# Altium footprint library MODULE_MISC.PcbLib: 36 footprints (part 2 of 3)
Each footprint in its own frame and in the unit in brackets; x right, y up, seen from the top. Pads: shape width x height; smd on the part's side, far side on the other; paste and mask are expansions set on the pad; w line width, h text height; cw(c..) or ccw(c..) is an arc to the next point about the centre after c.
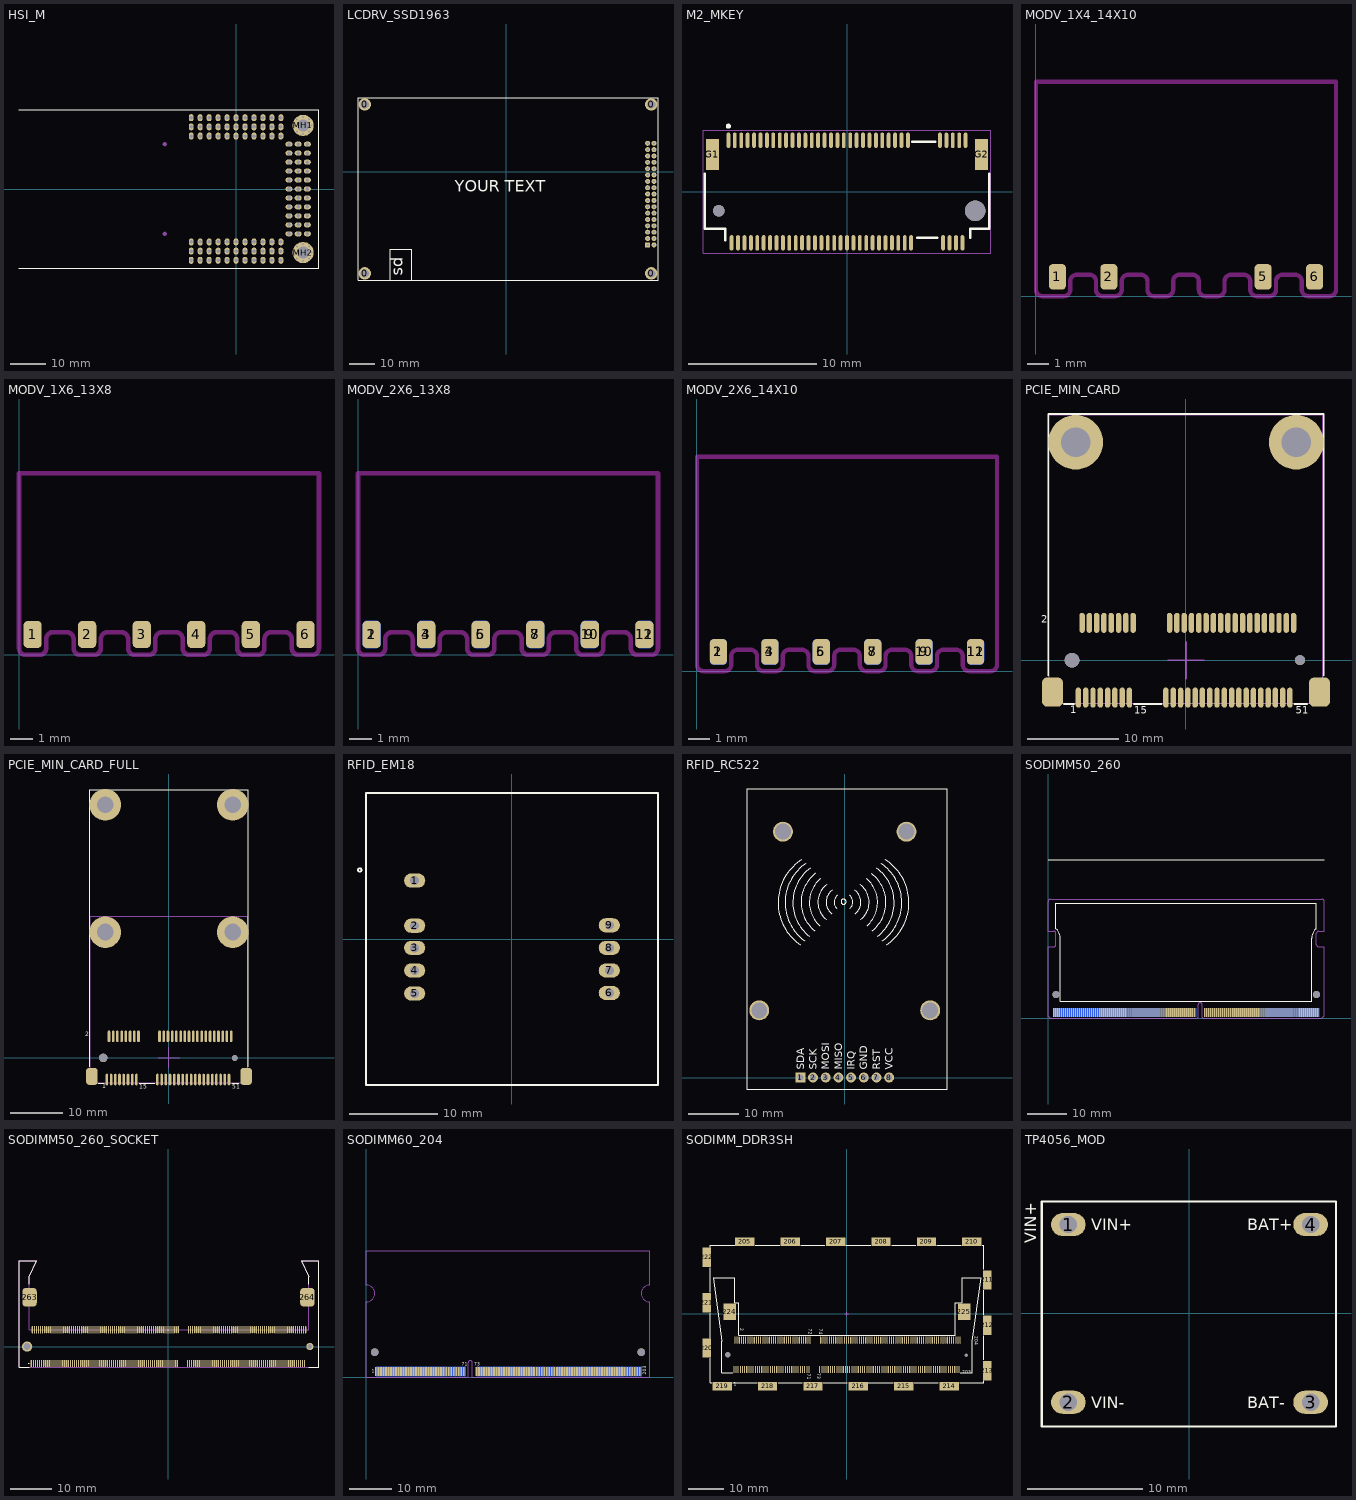
[diagram p1: the footprints below, top view; thin cyan lines are the x and y axes]

## HSI_M [mm] "CHILA_High.Speed.Interface_MODULE, MALE"
pads (103):
  oct 1.4x2 / inner round 1.4 / far side oct 1.4x1.4 hole 1 mask+0.1: BA1(-12.7,-15)
  oval 1.4x2 / inner round 1.4 / far side round 1.4 hole 1 mask+0.1: BA2(-10.16,-15) BA3(-7.62,-15) BA4(-5.08,-15) BA5(-2.54,-15) BA6(0,-15) BA7(2.54,-15) BA8(5.08,-15) BA9(7.62,-15) BA10(10.16,-15) BA11(12.7,-15) BB1(-12.7,-17.6) BB2(-10.16,-17.6) BB3(-7.62,-17.6) BB4(-5.08,-17.6) BB5(-2.54,-17.6) BB6(0,-17.6) BB7(2.54,-17.6) BB8(5.08,-17.6) BB9(7.62,-17.6) BB10(10.16,-17.6) BB11(12.7,-17.6) BC1(-12.7,-20.2) BC2(-10.16,-20.2) BC3(-7.62,-20.2) BC4(-5.08,-20.2) BC5(-2.54,-20.2) BC6(0,-20.2) BC7(2.54,-20.2) BC8(5.08,-20.2) BC9(7.62,-20.2) BC10(10.16,-20.2) BC11(12.7,-20.2) TA1(12.7,15) TA2(10.16,15) TA3(7.62,15) TA4(5.08,15) TA5(2.54,15) TA6(0,15) TA7(-2.54,15) TA8(-5.08,15) TA9(-7.62,15) TA10(-10.16,15) TA11(-12.7,15) TB1(12.7,17.6) TB2(10.16,17.6) TB3(7.62,17.6) TB4(5.08,17.6) TB5(2.54,17.6) TB6(0,17.6) TB7(-2.54,17.6) TB8(-5.08,17.6) TB9(-7.62,17.6) TB10(-10.16,17.6) TB11(-12.7,17.6) TC1(12.7,20.2) TC2(10.16,20.2) TC3(7.62,20.2) TC4(5.08,20.2) TC5(2.54,20.2) TC6(0,20.2) TC7(-2.54,20.2) TC8(-5.08,20.2) TC9(-7.62,20.2) TC10(-10.16,20.2) TC11(-12.7,20.2)
  oval 2x1.4 / inner round 1.4 / far side round 1.4 hole 1 mask+0.1: CA1(15,-12.7) CA2(15,-10.16) CA3(15,-7.62) CA4(15,-5.08) CA5(15,-2.54) CA6(15,0) CA7(15,2.54) CA8(15,5.08) CA9(15,7.62) CA10(15,10.16) CA11(15,12.7) CB1(17.6,-12.7) CB2(17.6,-10.16) CB3(17.6,-7.62) CB4(17.6,-5.08) CB5(17.6,-2.54) CB6(17.6,0) CB7(17.6,2.54) CB8(17.6,5.08) CB9(17.6,7.62) CB10(17.6,10.16) CB11(17.6,12.7) CC1(20.2,-12.7) CC2(20.2,-10.16) CC3(20.2,-7.62) CC4(20.2,-5.08) CC5(20.2,-2.54) CC6(20.2,0) CC7(20.2,2.54) CC8(20.2,5.08) CC9(20.2,7.62) CC10(20.2,10.16) CC11(20.2,12.7)
  round 6 hole 3.5 mask+0.1: MH1(19,18) MH2(19,-18)
  round 1.2 on Mech1 mask+0.1: ""(-20.2,-12.7) ""(-20.2,12.7)
via 16.6,-18 diameter 0.8 hole 0.5
via 17.303,-16.303 diameter 0.8 hole 0.5
via 19,-15.6 diameter 0.8 hole 0.5
via 20.697,-16.303 diameter 0.8 hole 0.5
via 21.4,-18 diameter 0.8 hole 0.5
via 20.697,-19.697 diameter 0.8 hole 0.5
via 19,-20.4 diameter 0.8 hole 0.5
via 17.303,-19.697 diameter 0.8 hole 0.5
via 17.303,19.697 diameter 0.8 hole 0.5
via 19,20.4 diameter 0.8 hole 0.5
via 20.697,19.697 diameter 0.8 hole 0.5
via 21.4,18 diameter 0.8 hole 0.5
via 20.697,16.303 diameter 0.8 hole 0.5
via 19,15.6 diameter 0.8 hole 0.5
via 17.303,16.303 diameter 0.8 hole 0.5
via 16.6,18 diameter 0.8 hole 0.5
Top Overlay:
  lines w0.2: -61.5,-22.5 23.5,-22.5 23.5,22.5 -61.5,22.5
Bottom Overlay:
  drawing of 622 lines, arcs and shapes, not listed
3D body "User Library-Header_Male_1Pin.STEP": height 8.54, standoff -3, extent -13.97,-16.245 -11.43,-13.755
3D body "User Library-Header_Male_10Pin.STEP": height 8.54, standoff -3, extent -11.43,-16.3 13.97,-13.81
3D body "User Library-Header_Male_1Pin.STEP": height 8.54, standoff -3, extent -13.97,-18.845 -11.43,-16.355
3D body "User Library-Header_Male_10Pin.STEP": height 8.54, standoff -3, extent -11.43,-18.9 13.97,-16.41
3D body "User Library-Header_Male_1Pin.STEP": height 8.54, standoff -3, extent -13.97,-21.445 -11.43,-18.955
3D body "User Library-Header_Male_10Pin.STEP": height 8.54, standoff -3, extent -11.43,-21.5 13.97,-19.01
3D body "User Library-Header_Male_1Pin.STEP": height 8.54, standoff -3, extent 18.956,11.43 21.445,13.97
3D body "User Library-Header_Male_10Pin.STEP": height 8.54, standoff -3, extent 18.901,-13.97 21.39,11.43
3D body "User Library-Header_Male_1Pin.STEP": height 8.54, standoff -3, extent 16.356,11.43 18.845,13.97
3D body "User Library-Header_Male_10Pin.STEP": height 8.54, standoff -3, extent 16.301,-13.97 18.791,11.43
3D body "User Library-Header_Male_1Pin.STEP": height 8.54, standoff -3, extent 13.756,11.43 16.245,13.97
3D body "User Library-Header_Male_10Pin.STEP": height 8.54, standoff -3, extent 13.701,-13.97 16.191,11.43
3D body "User Library-Header_Male_1Pin.STEP": height 8.54, standoff -3, extent 11.43,13.755 13.97,16.245
3D body "User Library-Header_Male_10Pin.STEP": height 8.54, standoff -3, extent -13.97,13.81 11.43,16.3
3D body "User Library-Header_Male_1Pin.STEP": height 8.54, standoff -3, extent 11.43,16.355 13.97,18.845
3D body "User Library-Header_Male_10Pin.STEP": height 8.54, standoff -3, extent -13.97,16.41 11.43,18.9
3D body "User Library-Header_Male_1Pin.STEP": height 8.54, standoff -3, extent 11.43,18.955 13.97,21.445
3D body "User Library-Header_Male_10Pin.STEP": height 8.54, standoff -3, extent -13.97,19.01 11.43,21.5

## LCDRV_SSD1963 [mm] "SSD1963 Module.3 Or 5 Inch"
pads (38):
  round 5 hole 3.2: 0(-56.6,-40.7) 0(-56.6,26.9) 0(58,-40.7) 0(58,26.9)
  rect 2x2 hole 0.9: 1(56.56,-29.3)
  round 2 hole 0.9: 2(59.1,-29.3) 3(56.56,-26.76) 4(59.1,-26.76) 5(56.56,-24.22) 6(59.1,-24.22) 7(56.56,-21.68) 8(59.1,-21.68) 9(56.56,-19.14) 10(59.1,-19.14) 11(56.56,-16.6) 12(59.1,-16.6) 13(56.56,-14.06) 14(59.1,-14.06) 15(56.56,-11.52) 16(59.1,-11.52) 17(56.56,-8.98) 18(59.1,-8.98) 19(56.56,-6.44) 20(59.1,-6.44) 21(56.56,-3.9) 22(59.1,-3.9) 23(56.56,-1.36) 24(59.1,-1.36) 25(56.56,1.18) 26(59.1,1.18) 27(56.56,3.72) 28(59.1,3.72) 29(56.56,6.26) 30(59.1,6.26) 31(56.56,8.8) 32(59.1,8.8) 33(56.56,11.34) 34(59.1,11.34)
Top Overlay:
  lines w0.2: -38,-31 -37.9,-31 ; -37.9,-31 -46.4,-31 -46.4,-43.5 -37.9,-43.5 -37.9,-31
  lines w0.5: -59.3,-43.4 60.7,-43.4 60.7,29.6 -59.3,29.6 -59.3,-43.4
  text "sd" at -39.9,-41.7 h8
  text "YOUR TEXT" at -20.7,-9.6 h8
3D body "Header 2.STEP": height 9.54, standoff -2, extent -58.97,10.04 -53.89,12.53
3D body "Header 10.STEP": height 9.54, standoff -2, extent -58.94,-15.45 -56.45,9.95
3D body "Header 6.STEP": height 9.54, standoff -2, extent -58.94,-30.69 -56.45,-15.45
3D body "Header 10.STEP": height 9.54, standoff -2, extent -56.4,-15.45 -53.91,9.95
3D body "Header 6.STEP": height 9.54, standoff -2, extent -56.4,-30.69 -53.91,-15.45
3D body "Header 2.STEP": height 9.54, standoff -2, extent 55.29,10.14 60.37,12.63
3D body "Header 10.STEP": height 9.54, standoff -2, extent 55.32,-15.35 57.81,10.05
3D body "Header 6.STEP": height 9.54, standoff -2, extent 55.32,-30.59 57.81,-15.35
3D body "Header 10.STEP": height 9.54, standoff -2, extent 57.86,-15.35 60.35,10.05
3D body "Header 6.STEP": height 9.54, standoff -2, extent 57.86,-30.59 60.35,-15.35

## M2_MKEY [mm] "M.2 MKEY NGFF"
height 4
pads (71):
  oval 0.3x1.2 smd mask+0.05: 1(-9.25,4) 2(-9,-4) 3(-8.75,4) 4(-8.5,-4) 5(-8.25,4) 6(-8,-4) 7(-7.75,4) 8(-7.5,-4) 9(-7.25,4) 10(-7,-4) 11(-6.75,4) 12(-6.5,-4) 13(-6.25,4) 14(-6,-4) 15(-5.75,4) 16(-5.5,-4) 17(-5.25,4) 18(-5,-4) 19(-4.75,4) 20(-4.5,-4) 21(-4.25,4) 22(-4,-4) 23(-3.75,4) 24(-3.5,-4) 25(-3.25,4) 26(-3,-4) 27(-2.75,4) 28(-2.5,-4) 29(-2.25,4) 30(-2,-4) 31(-1.75,4) 32(-1.5,-4) 33(-1.25,4) 34(-1,-4) 35(-0.75,4) 36(-0.5,-4) 37(-0.25,4) 38(0,-4) 39(0.25,4) 40(0.5,-4) 41(0.75,4) 42(1,-4) 43(1.25,4) 44(1.5,-4) 45(1.75,4) 46(2,-4) 47(2.25,4) 48(2.5,-4) 49(2.75,4) 50(3,-4) 51(3.25,4) 52(3.5,-4) 53(3.75,4) 54(4,-4) 55(4.25,4) 56(4.5,-4) 57(4.75,4) 58(5,-4) 67(7.25,4) 68(7.5,-4) 69(7.75,4) 70(8,-4) 71(8.25,4) 72(8.5,-4) 73(8.75,4) 74(9,-4) 75(9.25,4)
  rect 1x2.4 smd: G1(-10.5,2.9) G2(10.5,2.9)
  round 0.9 hole 0.9 unplated: ""(-10,-1.5)
  round 1.6 hole 1.6 unplated: ""(10,-1.5)
Top Overlay:
  circle w0.2: c-9.25,5.1 r0.1
  lines w0.2: -11.1,1.4 -11.1,-2.9 -9.5,-2.9 -9.5,-3.8 ; 5.1,3.9 6.9,3.9 ; 5.47,-3.6 7.03,-3.6 ; 9.6,-3.6 9.6,-2.9 11.1,-2.9 11.1,1.4
Mechanical 15:
  lines w0.05: -11.2,-4.8 11.2,-4.8 11.2,4.8 -11.2,4.8 -11.2,-4.8
3D body "c-1-2199230-5-b2-3d.stp": height 4.09, standoff -0.62, extent -10.95,-4.35 10.95,4.35

## MODV_1X4_14X10 [mm]
pads (4):
  rrect50% 0.8x1.2 smd: 1(1,0.9) 2(3.4,0.9) 5(10.6,0.9) 6(13,0.9)
Keep-Out Layer:
  lines w0.2: 0,0.3 ccw(c0.3,0.3) 0.3,0 1.3,0 ccw(c1.3,0.3) 1.6,0.3 1.6,0.7 cw(c1.9,0.7) 1.9,1 2.5,1 cw(c2.5,0.7) 2.8,0.7 2.8,0.3 ccw(c3.1,0.3) 3.1,0 3.7,0 ccw(c3.7,0.3) 4,0.3 4,0.7 cw(c4.3,0.7) 4.3,1 4.9,1 cw(c4.9,0.7) 5.2,0.7 5.2,0.3 ccw(c5.5,0.3) 5.5,0 6.1,0 ccw(c6.1,0.3) 6.4,0.3 6.4,0.7 cw(c6.7,0.7) 6.7,1 7.3,1 cw(c7.3,0.7) 7.6,0.7 7.6,0.3 ccw(c7.9,0.3) 7.9,0 8.5,0 ccw(c8.5,0.3) 8.8,0.3 8.8,0.7 cw(c9.1,0.7) 9.1,1 9.7,1 cw(c9.7,0.7) 10,0.7 10,0.3 ccw(c10.3,0.3) 10.3,0 10.9,0 ccw(c10.9,0.3) 11.2,0.3 11.2,0.7 cw(c11.5,0.7) 11.5,1 12.1,1 cw(c12.1,0.7) 12.4,0.7 12.4,0.3 ccw(c12.7,0.3) 12.7,0 13.7,0 ccw(c13.7,0.3) 14,0.3 14,10 0,10 0,0.7 0,0.3

## MODV_1X6_13X8 [mm]
pads (6):
  rrect50% 0.8x1.2 smd: 1(0.6,0.9) 2(3,0.9) 3(5.4,0.9) 4(7.8,0.9) 5(10.2,0.9) 6(12.6,0.9)
Keep-Out Layer:
  lines w0.2: 0,0.3 ccw(c0.3,0.3) 0.3,0 0.9,0 ccw(c0.9,0.3) 1.2,0.3 1.2,0.7 cw(c1.5,0.7) 1.5,1 2.1,1 cw(c2.1,0.7) 2.4,0.7 2.4,0.3 ccw(c2.7,0.3) 2.7,0 3.3,0 ccw(c3.3,0.3) 3.6,0.3 3.6,0.7 cw(c3.9,0.7) 3.9,1 4.5,1 cw(c4.5,0.7) 4.8,0.7 4.8,0.3 ccw(c5.1,0.3) 5.1,0 5.7,0 ccw(c5.7,0.3) 6,0.3 6,0.7 cw(c6.3,0.7) 6.3,1 6.9,1 cw(c6.9,0.7) 7.2,0.7 7.2,0.3 ccw(c7.5,0.3) 7.5,0 8.1,0 ccw(c8.1,0.3) 8.4,0.3 8.4,0.7 cw(c8.7,0.7) 8.7,1 9.3,1 cw(c9.3,0.7) 9.6,0.7 9.6,0.3 ccw(c9.9,0.3) 9.9,0 10.5,0 ccw(c10.5,0.3) 10.8,0.3 10.8,0.7 cw(c11.1,0.7) 11.1,1 11.7,1 cw(c11.7,0.7) 12,0.7 12,0.3 ccw(c12.3,0.3) 12.3,0 12.9,0 ccw(c12.9,0.3) 13.2,0.3 13.2,8 0,8 0,0.7 0,0.3

## MODV_2X6_13X8 [mm]
pads (12):
  rrect50% 0.8x1.2 smd: 1(0.6,0.9) 3(3,0.9) 5(5.4,0.9) 7(7.8,0.9) 9(10.2,0.9) 11(12.6,0.9)
  rrect50% 0.8x1.2 smd far side: 2(0.6,0.9) 4(3,0.9) 6(5.4,0.9) 8(7.8,0.9) 10(10.2,0.9) 12(12.6,0.9)
Keep-Out Layer:
  lines w0.2: 0,0.3 ccw(c0.3,0.3) 0.3,0 0.9,0 ccw(c0.9,0.3) 1.2,0.3 1.2,0.7 cw(c1.5,0.7) 1.5,1 2.1,1 cw(c2.1,0.7) 2.4,0.7 2.4,0.3 ccw(c2.7,0.3) 2.7,0 3.3,0 ccw(c3.3,0.3) 3.6,0.3 3.6,0.7 cw(c3.9,0.7) 3.9,1 4.5,1 cw(c4.5,0.7) 4.8,0.7 4.8,0.3 ccw(c5.1,0.3) 5.1,0 5.7,0 ccw(c5.7,0.3) 6,0.3 6,0.7 cw(c6.3,0.7) 6.3,1 6.9,1 cw(c6.9,0.7) 7.2,0.7 7.2,0.3 ccw(c7.5,0.3) 7.5,0 8.1,0 ccw(c8.1,0.3) 8.4,0.3 8.4,0.7 cw(c8.7,0.7) 8.7,1 9.3,1 cw(c9.3,0.7) 9.6,0.7 9.6,0.3 ccw(c9.9,0.3) 9.9,0 10.5,0 ccw(c10.5,0.3) 10.8,0.3 10.8,0.7 cw(c11.1,0.7) 11.1,1 11.7,1 cw(c11.7,0.7) 12,0.7 12,0.3 ccw(c12.3,0.3) 12.3,0 12.9,0 ccw(c12.9,0.3) 13.2,0.3 13.2,8 0,8 0,0.7 0,0.3

## MODV_2X6_14X10 [mm]
pads (12):
  rrect50% 0.8x1.2 smd: 1(1,0.9) 3(3.4,0.9) 5(5.8,0.9) 7(8.2,0.9) 9(10.6,0.9) 11(13,0.9)
  rrect50% 0.8x1.2 smd far side: 2(1,0.9) 4(3.4,0.9) 6(5.8,0.9) 8(8.2,0.9) 10(10.6,0.9) 12(13,0.9)
Keep-Out Layer:
  lines w0.2: 0,0.3 ccw(c0.3,0.3) 0.3,0 1.3,0 ccw(c1.3,0.3) 1.6,0.3 1.6,0.7 cw(c1.9,0.7) 1.9,1 2.5,1 cw(c2.5,0.7) 2.8,0.7 2.8,0.3 ccw(c3.1,0.3) 3.1,0 3.7,0 ccw(c3.7,0.3) 4,0.3 4,0.7 cw(c4.3,0.7) 4.3,1 4.9,1 cw(c4.9,0.7) 5.2,0.7 5.2,0.3 ccw(c5.5,0.3) 5.5,0 6.1,0 ccw(c6.1,0.3) 6.4,0.3 6.4,0.7 cw(c6.7,0.7) 6.7,1 7.3,1 cw(c7.3,0.7) 7.6,0.7 7.6,0.3 ccw(c7.9,0.3) 7.9,0 8.5,0 ccw(c8.5,0.3) 8.8,0.3 8.8,0.7 cw(c9.1,0.7) 9.1,1 9.7,1 cw(c9.7,0.7) 10,0.7 10,0.3 ccw(c10.3,0.3) 10.3,0 10.9,0 ccw(c10.9,0.3) 11.2,0.3 11.2,0.7 cw(c11.5,0.7) 11.5,1 12.1,1 cw(c12.1,0.7) 12.4,0.7 12.4,0.3 ccw(c12.7,0.3) 12.7,0 13.7,0 ccw(c13.7,0.3) 14,0.3 14,10 0,10 0,0.7 0,0.3

## PCIE_MIN_CARD [mm] "PCIE_MINI_CARD molex 679100002"
height 4
pads (58):
  oval 0.6x2.2 smd: 1(-11.8,-4.1) 2(-11.4,4.1) 3(-11,-4.1) 4(-10.6,4.1) 5(-10.2,-4.1) 6(-9.8,4.1) 7(-9.4,-4.1) 8(-9,4.1) 9(-8.6,-4.1) 10(-8.2,4.1) 11(-7.8,-4.1) 12(-7.4,4.1) 13(-7,-4.1) 14(-6.6,4.1) 15(-6.2,-4.1) 16(-5.8,4.1) 17(-2.2,-4.1) 18(-1.8,4.1) 19(-1.4,-4.1) 20(-1,4.1) 21(-0.6,-4.1) 22(-0.2,4.1) 23(0.2,-4.1) 24(0.6,4.1) 25(1,-4.1) 26(1.4,4.1) 27(1.8,-4.1) 28(2.2,4.1) 29(2.6,-4.1) 30(3,4.1) 31(3.4,-4.1) 32(3.8,4.1) 33(4.2,-4.1) 34(4.6,4.1) 35(5,-4.1) 36(5.4,4.1) 37(5.8,-4.1) 38(6.2,4.1) 39(6.6,-4.1) 40(7,4.1) 41(7.4,-4.1) 42(7.8,4.1) 43(8.2,-4.1) 44(8.6,4.1) 45(9,-4.1) 46(9.4,4.1) 47(9.8,-4.1) 48(10.2,4.1) 49(10.6,-4.1) 50(11,4.1) 51(11.4,-4.1) 52(11.8,4.1)
  rrect50% 2.311x3.2 smd: " "(-14.65,-3.5) " "(14.65,-3.5)
  round 1.6 hole 1.6 unplated: " "(-12.5,0)
  round 6 hole 3.2: " "(-12.1,23.9) " "(12.1,23.9)
  round 1.1 hole 1.1 unplated: " "(12.5,0)
Top Overlay:
  lines w0.2: -15.1,-1.7 -15.1,27 15.1,27 15.1,-1.7 ; -13.4,-4.8 -12.3,-4.8 ; -5.7,-4.8 -2.7,-4.8 ; 11.9,-4.8 13.3,-4.8
  text "15" at -5.7,-5.9 h0.8
  text "51" at 12.011,-5.863 h0.8
  text "2" at -15.9,4.1 h0.8
  text "1" at -12.7,-5.8 h0.8
Top Solder:
  pour cut-out: 12.156,3.046 12.156,5.154 -2.156,5.154 -2.156,3.046
  pour cut-out: -5.444,3.046 -5.444,5.154 -11.756,5.154 -11.756,3.046
  pour cut-out: -5.844,-5.154 -5.844,-3.046 -12.156,-3.046 -12.156,-5.154
  pour cut-out: 11.756,-5.154 11.756,-3.046 -2.556,-3.046 -2.556,-5.154
Mechanical 1:
  lines w0.2: -2,0 2,0 ; 0,-2 0,2
Mechanical 13:
  lines w0.1: -15,-4.7 -15,26.9 15,26.9 15,-4.7 -15,-4.7
3D body "User Library-PCI Express Half-Mini Card.step": height 5.4, standoff 0.65, extent -15,0 15,26.8
3D body "K3D-MM60-52B1-E1-R2 JAE Connector Division Proprietary.STEP": height 5.95, standoff -0.75, extent -14.85,-5 14.85,5

## PCIE_MIN_CARD_FULL [mm] "PCIE_MINI_CARD molex 679100002"
height 4
pads (60):
  oval 0.5x2.2 smd mask+0.075: 1(-11.8,-4.1) 2(-11.4,4.1) 3(-11,-4.1) 4(-10.6,4.1) 5(-10.2,-4.1) 6(-9.8,4.1) 7(-9.4,-4.1) 8(-9,4.1) 9(-8.6,-4.1) 10(-8.2,4.1) 11(-7.8,-4.1) 12(-7.4,4.1) 13(-7,-4.1) 14(-6.6,4.1) 15(-6.2,-4.1) 16(-5.8,4.1) 17(-2.2,-4.1) 18(-1.8,4.1) 19(-1.4,-4.1) 20(-1,4.1) 21(-0.6,-4.1) 22(-0.2,4.1) 23(0.2,-4.1) 24(0.6,4.1) 25(1,-4.1) 26(1.4,4.1) 27(1.8,-4.1) 28(2.2,4.1) 29(2.6,-4.1) 30(3,4.1) 31(3.4,-4.1) 32(3.8,4.1) 33(4.2,-4.1) 34(4.6,4.1) 35(5,-4.1) 36(5.4,4.1) 37(5.8,-4.1) 38(6.2,4.1) 39(6.6,-4.1) 40(7,4.1) 41(7.4,-4.1) 42(7.8,4.1) 43(8.2,-4.1) 44(8.6,4.1) 45(9,-4.1) 46(9.4,4.1) 47(9.8,-4.1) 48(10.2,4.1) 49(10.6,-4.1) 50(11,4.1) 51(11.4,-4.1) 52(11.8,4.1)
  rrect50% 2.2x3.2 smd paste-0.1: " "(-14.65,-3.5) " "(14.65,-3.5)
  round 1.6 hole 1.6 unplated: " "(-12.5,0)
  round 1.1 hole 1.1 unplated: " "(12.5,0)
  round 6 hole 3.2 unplated: ""(-12.1,23.9) ""(-12.1,48.1) ""(12.1,23.9) ""(12.1,48.1)
Top Overlay:
  lines w0.2: -15.1,-1.7 -15.1,51 15.1,51 15.1,-1.7 ; -13.4,-4.8 -12.3,-4.8 ; -5.7,-4.8 -2.7,-4.8 ; 11.9,-4.8 13.3,-4.8
  text "15" at -5.7,-5.9 h0.8
  text "51" at 12.011,-5.863 h0.8
  text "2" at -15.9,4.1 h0.8
  text "1" at -12.7,-5.8 h0.8
Mechanical 1:
  lines w0.2: -2,0 2,0 ; 0,-2 0,2
Mechanical 13:
  lines w0.1: -15,-4.7 -15,26.9 15,26.9 15,-4.7 -15,-4.7
3D body "K3D-MM60-52B1-E1-R2 JAE Connector Division Proprietary.STEP": height 5.95, standoff -0.75, extent -14.85,-5 14.85,5
3D body "ec20-mini-pcie.STEP": height 6.3, standoff 1.8, extent -15,0.025 15,50.975

## RFID_EM18 [mm] "MODULE, RFID Reader, EM-18"
pads (9):
  oval 2.4x1.6 hole 1: 1(-11,6.65) 2(-11,1.55) 3(-11,-0.95) 4(-11,-3.5) 5(-11,-6.1) 6(11,-6.05) 7(11,-3.5) 8(11,-0.95) 9(11,1.6)
Top Overlay:
  circle w0.2: c-17.2,7.849 r0.2
  lines w0.2: -16.5,-16.45 16.5,-16.45 16.5,16.45 16.5,16.55 -16.5,16.55 -16.5,-16.45
3D body "User Library-EM-18.STEP": height 8.05, standoff -6.1, extent -16.5,-16.45 16.5,16.55

## RFID_RC522 [mm] "RFID module header RC522"
pads (12):
  rect 2x2 hole 1.2: 1(-8.89,0)
  round 2 hole 1.2: 2(-6.35,0) 3(-3.81,0) 4(-1.27,0) 5(1.27,0) 6(3.81,0) 7(6.35,0) 8(8.89,0)
  round 4 hole 3.2: ""(-17.13,13.47) ""(-12.38,49.25) ""(12.37,49.25) ""(17.12,13.47)
Top Overlay:
  circle w0.2: c-0.237,35.214 r0.508
  lines w0.2: -8.88,26.568 cw(c-3.138,35.032) -8.67,43.635 ; -8.06,27.392 cw(c-2.491,35.033) -7.848,42.825 ; -7.128,28.323 cw(c-1.866,35.055) -6.947,41.924 ; -6.05,29.401 cw(c-1.466,35.076) -5.895,40.872 ; -5.004,30.447 cw(c-0.877,35.092) -4.905,39.824 ; -3.739,31.712 cw(c-1.067,35.129) -3.643,38.62 ; -2.616,32.835 cw(c-0.783,35.156) -2.55,37.527 ; -1.558,33.894 cw(c-0.433,35.179) -1.519,36.496 ; 1.012,36.492 cw(c-0.075,35.174) 1.05,33.89 ; 2.043,37.523 cw(c0.275,35.151) 2.109,32.831 ; 3.135,38.615 cw(c0.559,35.125) 3.232,31.708 ; 4.397,39.819 cw(c0.37,35.088) 4.497,30.443 ; 5.388,40.868 cw(c0.959,35.072) 5.543,29.397 ; 6.44,41.92 cw(c1.359,35.05) 6.621,28.319 ; 7.341,42.821 cw(c1.983,35.029) 7.553,27.387 ; 8.163,43.631 cw(c2.63,35.028) 8.373,26.564 ; -19.6,-2.3 -19.6,57.8 20.5,57.8 20.5,-2.3 -19.6,-2.3
  text "SDA" at -8.146,1.556 h1.52
  text "SCK" at -5.606,1.556 h1.52
  text "MOSI" at -3.066,1.556 h1.52
  text "MISO" at -0.526,1.556 h1.52
  text "IRQ" at 2.014,1.556 h1.52
  text "GND" at 4.554,1.556 h1.52
  text "RST" at 7.094,1.556 h1.52
  text "VCC" at 9.634,1.556 h1.52
3D body "User Library-RFID.STEP": height 10.74, standoff -0.8, extent -19.53,-2.28 20.47,57.72

## SODIMM50_260 [mm] "Golden finger, SODIMM, Dual, Staggered, Pitch 0.5mm, 260-Position"
pads (262):
  rect 0.3x2.2 smd paste-1 mask+0.075: 1(1.425,1.5) 3(1.925,1.5) 5(2.425,1.5) 7(2.925,1.5) 9(3.425,1.5) 11(3.925,1.5) 13(4.425,1.5) 15(4.925,1.5) 17(5.425,1.5) 19(5.925,1.5) 21(6.425,1.5) 23(6.925,1.5) 25(7.425,1.5) 27(7.925,1.5) 29(8.425,1.5) 31(8.925,1.5) 33(9.425,1.5) 35(9.925,1.5) 37(10.425,1.5) 39(10.925,1.5) 41(11.425,1.5) 43(11.925,1.5) 45(12.425,1.5) 47(12.925,1.5) 49(13.425,1.5) 51(13.925,1.5) 53(14.425,1.5) 55(14.925,1.5) 57(15.425,1.5) 59(15.925,1.5) 61(16.425,1.5) 63(16.925,1.5) 65(17.425,1.5) 67(17.925,1.5) 69(18.425,1.5) 71(18.925,1.5) 73(19.425,1.5) 75(19.925,1.5) 77(20.425,1.5) 79(20.925,1.5) 81(21.425,1.5) 83(21.925,1.5) 85(22.425,1.5) 87(22.925,1.5) 89(23.425,1.5) 91(23.925,1.5) 93(24.425,1.5) 95(24.925,1.5) 97(25.425,1.5) 99(25.925,1.5) 101(26.425,1.5) 103(26.925,1.5) 105(27.425,1.5) 107(27.925,1.5) 109(28.425,1.5) 111(28.925,1.5) 113(29.425,1.5) 115(29.925,1.5) 117(30.425,1.5) 119(30.925,1.5) 121(31.425,1.5) 123(31.925,1.5) 125(32.425,1.5) 127(32.925,1.5) 129(33.425,1.5) 131(33.925,1.5) 133(34.425,1.5) 135(34.925,1.5) 137(35.425,1.5) 139(35.925,1.5) 141(36.425,1.5) 143(36.925,1.5) 145(39.425,1.5) 147(39.925,1.5) 149(40.425,1.5) 151(40.925,1.5) 153(41.425,1.5) 155(41.925,1.5) 157(42.425,1.5) 159(42.925,1.5) 161(43.425,1.5) 163(43.925,1.5) 165(44.425,1.5) 167(44.925,1.5) 169(45.425,1.5) 171(45.925,1.5) 173(46.425,1.5) 175(46.925,1.5) 177(47.425,1.5) 179(47.925,1.5) 181(48.425,1.5) 183(48.925,1.5) 185(49.425,1.5) 187(49.925,1.5) 189(50.425,1.5) 191(50.925,1.5) 193(51.425,1.5) 195(51.925,1.5) 197(52.425,1.5) 199(52.925,1.5) 201(53.425,1.5) 203(53.925,1.5) 205(54.425,1.5) 207(54.925,1.5) 209(55.425,1.5) 211(55.925,1.5) 213(56.425,1.5) 215(56.925,1.5) 217(57.425,1.5) 219(57.925,1.5) 221(58.425,1.5) 223(58.925,1.5) 225(59.425,1.5) 227(59.925,1.5) 229(60.425,1.5) 231(60.925,1.5) 233(61.425,1.5) 235(61.925,1.5) 237(62.425,1.5) 239(62.925,1.5) 241(63.425,1.5) 243(63.925,1.5) 245(64.425,1.5) 247(64.925,1.5) 249(65.425,1.5) 251(65.925,1.5) 253(66.425,1.5) 255(66.925,1.5) 257(67.425,1.5) 259(67.925,1.5)
  rect 0.3x2.2 smd far side paste-1 mask+0.075: 2(1.675,1.5) 4(2.175,1.5) 6(2.675,1.5) 8(3.175,1.5) 10(3.675,1.5) 12(4.175,1.5) 14(4.675,1.5) 16(5.175,1.5) 18(5.675,1.5) 20(6.175,1.5) 22(6.675,1.5) 24(7.175,1.5) 26(7.675,1.5) 28(8.175,1.5) 30(8.675,1.5) 32(9.175,1.5) 34(9.675,1.5) 36(10.175,1.5) 38(10.675,1.5) 40(11.175,1.5) 42(11.675,1.5) 44(12.175,1.5) 46(12.675,1.5) 48(13.175,1.5) 50(13.675,1.5) 52(14.175,1.5) 54(14.675,1.5) 56(15.175,1.5) 58(15.675,1.5) 60(16.175,1.5) 62(16.675,1.5) 64(17.175,1.5) 66(17.675,1.5) 68(18.175,1.5) 70(18.675,1.5) 72(19.175,1.5) 74(19.675,1.5) 76(20.175,1.5) 78(20.675,1.5) 80(21.175,1.5) 82(21.675,1.5) 84(22.175,1.5) 86(22.675,1.5) 88(23.175,1.5) 90(23.675,1.5) 92(24.175,1.5) 94(24.675,1.5) 96(25.175,1.5) 98(25.675,1.5) 100(26.175,1.5) 102(26.675,1.5) 104(27.175,1.5) 106(27.675,1.5) 108(28.175,1.5) 110(28.675,1.5) 112(29.175,1.5) 114(29.675,1.5) 116(30.175,1.5) 118(30.675,1.5) 120(31.175,1.5) 122(31.675,1.5) 124(32.175,1.5) 126(32.675,1.5) 128(33.175,1.5) 130(33.675,1.5) 132(34.175,1.5) 134(34.675,1.5) 136(35.175,1.5) 138(35.675,1.5) 140(36.175,1.5) 142(36.675,1.5) 144(37.175,1.5) 146(39.675,1.5) 148(40.175,1.5) 150(40.675,1.5) 152(41.175,1.5) 154(41.675,1.5) 156(42.175,1.5) 158(42.675,1.5) 160(43.175,1.5) 162(43.675,1.5) 164(44.175,1.5) 166(44.675,1.5) 168(45.175,1.5) 170(45.675,1.5) 172(46.175,1.5) 174(46.675,1.5) 176(47.175,1.5) 178(47.675,1.5) 180(48.175,1.5) 182(48.675,1.5) 184(49.175,1.5) 186(49.675,1.5) 188(50.175,1.5) 190(50.675,1.5) 192(51.175,1.5) 194(51.675,1.5) 196(52.175,1.5) 198(52.675,1.5) 200(53.175,1.5) 202(53.675,1.5) 204(54.175,1.5) 206(54.675,1.5) 208(55.175,1.5) 210(55.675,1.5) 212(56.175,1.5) 214(56.675,1.5) 216(57.175,1.5) 218(57.675,1.5) 220(58.175,1.5) 222(58.675,1.5) 224(59.175,1.5) 226(59.675,1.5) 228(60.175,1.5) 230(60.675,1.5) 232(61.175,1.5) 234(61.675,1.5) 236(62.175,1.5) 238(62.675,1.5) 240(63.175,1.5) 242(63.675,1.5) 244(64.175,1.5) 246(64.675,1.5) 248(65.175,1.5) 250(65.675,1.5) 252(66.175,1.5) 254(66.675,1.5) 256(67.175,1.5) 258(67.675,1.5) 260(68.175,1.5)
  round 1.8 hole 1.8 unplated: ""(2,6) ""(67.6,6)
Top Layer:
  text "1" at 0.5,2.7 h1
Top Overlay:
  lines w0.1: 0,40 69.6,40
  lines w0.2: 2,22.6 2,29 67.5,29 67.5,22.6 67.298,22.398 ccw(c69.466,20.23) 66.4,20.23 66.4,4.3 3.1,4.3 3.1,20.23 ccw(c0.034,20.23) 2.202,22.398 2,22.6
Top Solder:
  rectangle: 1.2,0.1 68.5,2.9
Bottom Solder:
  rectangle: 1.2,0.1 68.5,2.9
Mechanical 1:
  lines w0.2: 0,0.6 0,18 1.4,18 ccw(c1.4,18.6) 2,18.6 2,21.4 ccw(c1.4,21.4) 1.4,22 0,22 0,29.4 cw(c0.6,29.4) 0.6,30 69,30 cw(c69,29.4) 69.6,29.4 69.6,22 68.2,22 ccw(c68.2,21.4) 67.6,21.4 67.6,18.6 ccw(c68.2,18.6) 68.2,18 69.6,18 69.6,0.613 68.987,0 39.1,0 38.8,0.3 38.8,3.5 ccw(c38.3,3.5) 37.8,3.5 37.8,0.3 37.5,0 0.6,0 0,0.6

## SODIMM50_260_SOCKET [mm] "SOCKET for SODIMM-260"
pads (264):
  oval 0.3x1.75 smd mask+0.075: 1(-33.375,-4.1) 2(-33.125,4.1) 3(-32.875,-4.1) 4(-32.625,4.1) 5(-32.375,-4.1) 6(-32.125,4.1) 7(-31.875,-4.1) 8(-31.625,4.1) 9(-31.375,-4.1) 10(-31.125,4.1) 11(-30.875,-4.1) 12(-30.625,4.1) 13(-30.375,-4.1) 14(-30.125,4.1) 15(-29.875,-4.1) 16(-29.625,4.1) 17(-29.375,-4.1) 18(-29.125,4.1) 19(-28.875,-4.1) 20(-28.625,4.1) 21(-28.375,-4.1) 22(-28.125,4.1) 23(-27.875,-4.1) 24(-27.625,4.1) 25(-27.375,-4.1) 26(-27.125,4.1) 27(-26.875,-4.1) 28(-26.625,4.1) 29(-26.375,-4.1) 30(-26.125,4.1) 31(-25.875,-4.1) 32(-25.625,4.1) 33(-25.375,-4.1) 34(-25.125,4.1) 35(-24.875,-4.1) 36(-24.625,4.1) 37(-24.375,-4.1) 38(-24.125,4.1) 39(-23.875,-4.1) 40(-23.625,4.1) 41(-23.375,-4.1) 42(-23.125,4.1) 43(-22.875,-4.1) 44(-22.625,4.1) 45(-22.375,-4.1) 46(-22.125,4.1) 47(-21.875,-4.1) 48(-21.625,4.1) 49(-21.375,-4.1) 50(-21.125,4.1) 51(-20.875,-4.1) 52(-20.625,4.1) 53(-20.375,-4.1) 54(-20.125,4.1) 55(-19.875,-4.1) 56(-19.625,4.1) 57(-19.375,-4.1) 58(-19.125,4.1) 59(-18.875,-4.1) 60(-18.625,4.1) 61(-18.375,-4.1) 62(-18.125,4.1) 63(-17.875,-4.1) 64(-17.625,4.1) 65(-17.375,-4.1) 66(-17.125,4.1) 67(-16.875,-4.1) 68(-16.625,4.1) 69(-16.375,-4.1) 70(-16.125,4.1) 71(-15.875,-4.1) 72(-15.625,4.1) 73(-15.375,-4.1) 74(-15.125,4.1) 75(-14.875,-4.1) 76(-14.625,4.1) 77(-14.375,-4.1) 78(-14.125,4.1) 79(-13.875,-4.1) 80(-13.625,4.1) 81(-13.375,-4.1) 82(-13.125,4.1) 83(-12.875,-4.1) 84(-12.625,4.1) 85(-12.375,-4.1) 86(-12.125,4.1) 87(-11.875,-4.1) 88(-11.625,4.1) 89(-11.375,-4.1) 90(-11.125,4.1) 91(-10.875,-4.1) 92(-10.625,4.1) 93(-10.375,-4.1) 94(-10.125,4.1) 95(-9.875,-4.1) 96(-9.625,4.1) 97(-9.375,-4.1) 98(-9.125,4.1) 99(-8.875,-4.1) 100(-8.625,4.1) 101(-8.375,-4.1) 102(-8.125,4.1) 103(-7.875,-4.1) 104(-7.625,4.1) 105(-7.375,-4.1) 106(-7.125,4.1) 107(-6.875,-4.1) 108(-6.625,4.1) 109(-6.375,-4.1) 110(-6.125,4.1) 111(-5.875,-4.1) 112(-5.625,4.1) 113(-5.375,-4.1) 114(-5.125,4.1) 115(-4.875,-4.1) 116(-4.625,4.1) 117(-4.375,-4.1) 118(-4.125,4.1) 119(-3.875,-4.1) 120(-3.625,4.1) 121(-3.375,-4.1) 122(-3.125,4.1) 123(-2.875,-4.1) 124(-2.625,4.1) 125(-2.375,-4.1) 126(-2.125,4.1) 127(-1.875,-4.1) 128(-1.625,4.1) 129(-1.375,-4.1) 130(-1.125,4.1) 131(-0.875,-4.1) 132(-0.625,4.1) 133(-0.375,-4.1) 134(-0.125,4.1) 135(0.125,-4.1) 136(0.375,4.1) 137(0.625,-4.1) 138(0.875,4.1) 139(1.125,-4.1) 140(1.375,4.1) 141(1.625,-4.1) 142(1.875,4.1) 143(2.125,-4.1) 144(2.375,4.1) 145(4.625,-4.1) 146(4.875,4.1) 147(5.125,-4.1) 148(5.375,4.1) 149(5.625,-4.1) 150(5.875,4.1) 151(6.125,-4.1) 152(6.375,4.1) 153(6.625,-4.1) 154(6.875,4.1) 155(7.125,-4.1) 156(7.375,4.1) 157(7.625,-4.1) 158(7.875,4.1) 159(8.125,-4.1) 160(8.375,4.1) 161(8.625,-4.1) 162(8.875,4.1) 163(9.125,-4.1) 164(9.375,4.1) 165(9.625,-4.1) 166(9.875,4.1) 167(10.125,-4.1) 168(10.375,4.1) 169(10.625,-4.1) 170(10.875,4.1) 171(11.125,-4.1) 172(11.375,4.1) 173(11.625,-4.1) 174(11.875,4.1) 175(12.125,-4.1) 176(12.375,4.1) 177(12.625,-4.1) 178(12.875,4.1) 179(13.125,-4.1) 180(13.375,4.1) 181(13.625,-4.1) 182(13.875,4.1) 183(14.125,-4.1) 184(14.375,4.1) 185(14.625,-4.1) 186(14.875,4.1) 187(15.125,-4.1) 188(15.375,4.1) 189(15.625,-4.1) 190(15.875,4.1) 191(16.125,-4.1) 192(16.375,4.1) 193(16.625,-4.1) 194(16.875,4.1) 195(17.125,-4.1) 196(17.375,4.1) 197(17.625,-4.1) 198(17.875,4.1) 199(18.125,-4.1) 200(18.375,4.1) 201(18.625,-4.1) 202(18.875,4.1) 203(19.125,-4.1) 204(19.375,4.1) 205(19.625,-4.1) 206(19.875,4.1) 207(20.125,-4.1) 208(20.375,4.1) 209(20.625,-4.1) 210(20.875,4.1) 211(21.125,-4.1) 212(21.375,4.1) 213(21.625,-4.1) 214(21.875,4.1) 215(22.125,-4.1) 216(22.375,4.1) 217(22.625,-4.1) 218(22.875,4.1) 219(23.125,-4.1) 220(23.375,4.1) 221(23.625,-4.1) 222(23.875,4.1) 223(24.125,-4.1) 224(24.375,4.1) 225(24.625,-4.1) 226(24.875,4.1) 227(25.125,-4.1) 228(25.375,4.1) 229(25.625,-4.1) 230(25.875,4.1) 231(26.125,-4.1) 232(26.375,4.1) 233(26.625,-4.1) 234(26.875,4.1) 235(27.125,-4.1) 236(27.375,4.1) 237(27.625,-4.1) 238(27.875,4.1) 239(28.125,-4.1) 240(28.375,4.1) 241(28.625,-4.1) 242(28.875,4.1) 243(29.125,-4.1) 244(29.375,4.1) 245(29.625,-4.1) 246(29.875,4.1) 247(30.125,-4.1) 248(30.375,4.1) 249(30.625,-4.1) 250(30.875,4.1) 251(31.125,-4.1) 252(31.375,4.1) 253(31.625,-4.1) 254(31.875,4.1) 255(32.125,-4.1) 256(32.375,4.1) 257(32.625,-4.1) 258(32.875,4.1) 259(33.125,-4.1) 260(33.375,4.1)
  round 2.5 hole 1.65: 261(-34.4,0)
  round 1.75 hole 1.15: 262(34.4,0)
  rrect50% 3.5x4.6 smd mask+0.075: 263(-33.8,12) 264(33.8,12)
Top Overlay:
  circle w0.2: c-34,-4.15 r0.053
  lines w0.2: -33.933,-5 -36.375,-5 -36.375,20.85 -32.075,20.85 -33.875,17 -33.875,15.208 ; 34.125,15.208 34.125,17 32.325,20.85 36.625,20.85 36.625,-5 34.183,-5
Mechanical 13:
  lines w0.2: -36.375,-5 -36.375,20.85 -32.075,20.85 -33.875,17 -33.875,4.1 34.125,4.1 34.125,17 32.325,20.85 36.625,20.85 36.625,-5 -36.375,-5
3D body "2309409-1.stp": height 5.28, standoff -0.28, extent -36.5,-4.815 36.5,21.035

## SODIMM60_204 [mm] "SO-DIMM, 204pin, thickness max 1.1mm for DDR3"
pads (206):
  rect 0.45x2.2 smd mask+0.05: 1(2.25,1.4) 3(2.85,1.4) 5(3.45,1.4) 7(4.05,1.4) 9(4.65,1.4) 11(5.25,1.4) 13(5.85,1.4) 15(6.45,1.4) 17(7.05,1.4) 19(7.65,1.4) 21(8.25,1.4) 23(8.85,1.4) 25(9.45,1.4) 27(10.05,1.4) 29(10.65,1.4) 31(11.25,1.4) 33(11.85,1.4) 35(12.45,1.4) 37(13.05,1.4) 39(13.65,1.4) 41(14.25,1.4) 43(14.85,1.4) 45(15.45,1.4) 47(16.05,1.4) 49(16.65,1.4) 51(17.25,1.4) 53(17.85,1.4) 55(18.45,1.4) 57(19.05,1.4) 59(19.65,1.4) 61(20.25,1.4) 63(20.85,1.4) 65(21.45,1.4) 67(22.05,1.4) 69(22.65,1.4) 71(23.25,1.4) 73(26.25,1.4) 75(26.85,1.4) 77(27.45,1.4) 79(28.05,1.4) 81(28.65,1.4) 83(29.25,1.4) 85(29.85,1.4) 87(30.45,1.4) 89(31.05,1.4) 91(31.65,1.4) 93(32.25,1.4) 95(32.85,1.4) 97(33.45,1.4) 99(34.05,1.4) 101(34.65,1.4) 103(35.25,1.4) 105(35.85,1.4) 107(36.45,1.4) 109(37.05,1.4) 111(37.65,1.4) 113(38.25,1.4) 115(38.85,1.4) 117(39.45,1.4) 119(40.05,1.4) 121(40.65,1.4) 123(41.25,1.4) 125(41.85,1.4) 127(42.45,1.4) 129(43.05,1.4) 131(43.65,1.4) 133(44.25,1.4) 135(44.85,1.4) 137(45.45,1.4) 139(46.05,1.4) 141(46.65,1.4) 143(47.25,1.4) 145(47.85,1.4) 147(48.45,1.4) 149(49.05,1.4) 151(49.65,1.4) 153(50.25,1.4) 155(50.85,1.4) 157(51.45,1.4) 159(52.05,1.4) 161(52.65,1.4) 163(53.25,1.4) 165(53.85,1.4) 167(54.45,1.4) 169(55.05,1.4) 171(55.65,1.4) 173(56.25,1.4) 175(56.85,1.4) 177(57.45,1.4) 179(58.05,1.4) 181(58.65,1.4) 183(59.25,1.4) 185(59.85,1.4) 187(60.45,1.4) 189(61.05,1.4) 191(61.65,1.4) 193(62.25,1.4) 195(62.85,1.4) 197(63.45,1.4) 199(64.05,1.4) 201(64.65,1.4) 203(65.25,1.4)
  rect 0.45x2.2 smd far side mask+0.05: 2(2.55,1.4) 4(3.15,1.4) 6(3.75,1.4) 8(4.35,1.4) 10(4.95,1.4) 12(5.55,1.4) 14(6.15,1.4) 16(6.75,1.4) 18(7.35,1.4) 20(7.95,1.4) 22(8.55,1.4) 24(9.15,1.4) 26(9.75,1.4) 28(10.35,1.4) 30(10.95,1.4) 32(11.55,1.4) 34(12.15,1.4) 36(12.75,1.4) 38(13.35,1.4) 40(13.95,1.4) 42(14.55,1.4) 44(15.15,1.4) 46(15.75,1.4) 48(16.35,1.4) 50(16.95,1.4) 52(17.55,1.4) 54(18.15,1.4) 56(18.75,1.4) 58(19.35,1.4) 60(19.95,1.4) 62(20.55,1.4) 64(21.15,1.4) 66(21.75,1.4) 68(22.35,1.4) 70(22.95,1.4) 72(23.55,1.4) 74(26.55,1.4) 76(27.15,1.4) 78(27.75,1.4) 80(28.35,1.4) 82(28.95,1.4) 84(29.55,1.4) 86(30.15,1.4) 88(30.75,1.4) 90(31.35,1.4) 92(31.95,1.4) 94(32.55,1.4) 96(33.15,1.4) 98(33.75,1.4) 100(34.35,1.4) 102(34.95,1.4) 104(35.55,1.4) 106(36.15,1.4) 108(36.75,1.4) 110(37.35,1.4) 112(37.95,1.4) 114(38.55,1.4) 116(39.15,1.4) 118(39.75,1.4) 120(40.35,1.4) 122(40.95,1.4) 124(41.55,1.4) 126(42.15,1.4) 128(42.75,1.4) 130(43.35,1.4) 132(43.95,1.4) 134(44.55,1.4) 136(45.15,1.4) 138(45.75,1.4) 140(46.35,1.4) 142(46.95,1.4) 144(47.55,1.4) 146(48.15,1.4) 148(48.75,1.4) 150(49.35,1.4) 152(49.95,1.4) 154(50.55,1.4) 156(51.15,1.4) 158(51.75,1.4) 160(52.35,1.4) 162(52.95,1.4) 164(53.55,1.4) 166(54.15,1.4) 168(54.75,1.4) 170(55.35,1.4) 172(55.95,1.4) 174(56.55,1.4) 176(57.15,1.4) 178(57.75,1.4) 180(58.35,1.4) 182(58.95,1.4) 184(59.55,1.4) 186(60.15,1.4) 188(60.75,1.4) 190(61.35,1.4) 192(61.95,1.4) 194(62.55,1.4) 196(63.15,1.4) 198(63.75,1.4) 200(64.35,1.4) 202(64.95,1.4) 204(65.55,1.4)
  round 1.8 hole 1.8 unplated: " "(2,6) " "(65.6,6)
Top Overlay:
  text "1" at 1.288,1.062 h0.75
  text "203" at 66.8,0.6 h0.75
  text "73" at 25.688,2.762 h0.75
  text "71" at 22.788,2.762 h0.75
Bottom Overlay:
  text "74" at 26.888,2.762 h0.75
  text "72" at 23.888,2.762 h0.75
  text "2" at 1.788,1.062 h0.75
  text "204" at 66.1,0.6 h0.75
Mechanical 1:
  lines w0.2: 0,22 cw(c0,20) 0,18 0,0 24.3,0 24.3,3.5 cw(c24.8,3.5) 25.3,3.5 25.3,0 67.6,0 67.6,18 cw(c67.6,20) 67.6,22 ; 0,22 0,22 ; 0,22 0,30.2 67.6,30.2 67.6,22 ; 67.6,22 67.6,22

## SODIMM_DDR3SH [mm] "SO-DIMM, 204pin, DDR3, SHIELDED"
pads (226):
  oval 0.3x2 smd mask+0.05: 1(-31.588,-15.562) 2(-31.288,-7.362) 3(-30.988,-15.562) 4(-30.688,-7.362) 5(-30.388,-15.562) 6(-30.088,-7.362) 7(-29.788,-15.562) 8(-29.488,-7.362) 9(-29.188,-15.562) 10(-28.888,-7.362) 11(-28.588,-15.562) 12(-28.288,-7.362) 13(-27.988,-15.562) 14(-27.688,-7.362) 15(-27.388,-15.562) 16(-27.088,-7.362) 17(-26.788,-15.562) 18(-26.488,-7.362) 19(-26.188,-15.562) 20(-25.888,-7.362) 21(-25.588,-15.562) 22(-25.288,-7.362) 23(-24.988,-15.562) 24(-24.688,-7.362) 25(-24.388,-15.562) 26(-24.088,-7.362) 27(-23.788,-15.562) 28(-23.488,-7.362) 29(-23.188,-15.562) 30(-22.888,-7.362) 31(-22.588,-15.562) 32(-22.288,-7.362) 33(-21.988,-15.562) 34(-21.688,-7.362) 35(-21.388,-15.562) 36(-21.088,-7.362) 37(-20.788,-15.562) 38(-20.488,-7.362) 39(-20.188,-15.562) 40(-19.888,-7.362) 41(-19.588,-15.562) 42(-19.288,-7.362) 43(-18.988,-15.562) 44(-18.688,-7.362) 45(-18.388,-15.562) 46(-18.088,-7.362) 47(-17.788,-15.562) 48(-17.488,-7.362) 49(-17.188,-15.562) 50(-16.888,-7.362) 51(-16.588,-15.562) 52(-16.288,-7.362) 53(-15.988,-15.562) 54(-15.688,-7.362) 55(-15.388,-15.562) 56(-15.088,-7.362) 57(-14.788,-15.562) 58(-14.488,-7.362) 59(-14.188,-15.562) 60(-13.888,-7.362) 61(-13.588,-15.562) 62(-13.288,-7.362) 63(-12.988,-15.562) 64(-12.688,-7.362) 65(-12.388,-15.562) 66(-12.088,-7.362) 67(-11.788,-15.562) 68(-11.488,-7.362) 69(-11.188,-15.562) 70(-10.888,-7.362) 71(-10.588,-15.562) 72(-10.288,-7.362) 73(-7.588,-15.562) 74(-7.288,-7.362) 75(-6.988,-15.562) 76(-6.688,-7.362) 77(-6.388,-15.562) 78(-6.088,-7.362) 79(-5.788,-15.562) 80(-5.488,-7.362) 81(-5.188,-15.562) 82(-4.888,-7.362) 83(-4.588,-15.562) 84(-4.288,-7.362) 85(-3.988,-15.562) 86(-3.688,-7.362) 87(-3.388,-15.562) 88(-3.088,-7.362) 89(-2.788,-15.562) 90(-2.488,-7.362) 91(-2.188,-15.562) 92(-1.888,-7.362) 93(-1.588,-15.562) 94(-1.288,-7.362) 95(-0.988,-15.562) 96(-0.688,-7.362) 97(-0.388,-15.562) 98(-0.088,-7.362) 99(0.212,-15.562) 100(0.512,-7.362) 101(0.812,-15.562) 102(1.112,-7.362) 103(1.412,-15.562) 104(1.712,-7.362) 105(2.012,-15.562) 106(2.312,-7.362) 107(2.612,-15.562) 108(2.912,-7.362) 109(3.212,-15.562) 110(3.512,-7.362) 111(3.812,-15.562) 112(4.112,-7.362) 113(4.412,-15.562) 114(4.712,-7.362) 115(5.012,-15.562) 116(5.312,-7.362) 117(5.612,-15.562) 118(5.912,-7.362) 119(6.212,-15.562) 120(6.512,-7.362) 121(6.812,-15.562) 122(7.112,-7.362) 123(7.412,-15.562) 124(7.712,-7.362) 125(8.012,-15.562) 126(8.312,-7.362) 127(8.612,-15.562) 128(8.912,-7.362) 129(9.212,-15.562) 130(9.512,-7.362) 131(9.812,-15.562) 132(10.112,-7.362) 133(10.412,-15.562) 134(10.712,-7.362) 135(11.012,-15.562) 136(11.312,-7.362) 137(11.612,-15.562) 138(11.912,-7.362) 139(12.212,-15.562) 140(12.512,-7.362) 141(12.812,-15.562) 142(13.112,-7.362) 143(13.412,-15.562) 144(13.712,-7.362) 145(14.012,-15.562) 146(14.312,-7.362) 147(14.612,-15.562) 148(14.912,-7.362) 149(15.212,-15.562) 150(15.512,-7.362) 151(15.812,-15.562) 152(16.112,-7.362) 153(16.412,-15.562) 154(16.712,-7.362) 155(17.012,-15.562) 156(17.312,-7.362) 157(17.612,-15.562) 158(17.912,-7.362) 159(18.212,-15.562) 160(18.512,-7.362) 161(18.812,-15.562) 162(19.112,-7.362) 163(19.412,-15.562) 164(19.712,-7.362) 165(20.012,-15.562) 166(20.312,-7.362) 167(20.612,-15.562) 168(20.912,-7.362) 169(21.212,-15.562) 170(21.512,-7.362) 171(21.812,-15.562) 172(22.112,-7.362) 173(22.412,-15.562) 174(22.712,-7.362) 175(23.012,-15.562) 176(23.312,-7.362) 177(23.612,-15.562) 178(23.912,-7.362) 179(24.212,-15.562) 180(24.512,-7.362) 181(24.812,-15.562) 182(25.112,-7.362) 183(25.412,-15.562) 184(25.712,-7.362) 185(26.012,-15.562) 186(26.312,-7.362) 187(26.612,-15.562) 188(26.912,-7.362) 189(27.212,-15.562) 190(27.512,-7.362) 191(27.812,-15.562) 192(28.112,-7.362) 193(28.412,-15.562) 194(28.712,-7.362) 195(29.012,-15.562) 196(29.312,-7.362) 197(29.612,-15.562) 198(29.912,-7.362) 199(30.212,-15.562) 200(30.512,-7.362) 201(30.812,-15.562) 202(31.112,-7.362) 203(31.412,-15.562) 204(31.712,-7.362)
  rect 5.4x2.4 smd mask+0.1: 205(-28.513,20.182) 206(-15.813,20.182) 207(-3.113,20.182) 208(9.587,20.182) 209(22.287,20.182) 210(34.987,20.182) 214(28.637,-20.255) 215(15.937,-20.255) 216(3.237,-20.255) 217(-9.463,-20.255) 218(-22.163,-20.255) 219(-34.863,-20.255)
  rect 2.4x5.4 smd mask+0.1: 211(39.33,9.488) 212(39.33,-3.212) 213(39.33,-15.912) 220(-39.206,-9.562) 221(-39.206,3.138) 222(-39.206,15.838)
  rect 3.6x4.6 smd: 224(-32.738,0.538) 225(32.862,0.538)
  round 0 hole 1.6 unplated: " "(-33.338,-11.462)
  round 0 hole 1 unplated: " "(33.462,-11.562)
Top Overlay:
  lines w0.152: -38.19,-12.478 -38.19,-19.239 -37.84,-19.239 ; -38.19,-6.788 -38.19,0.121 ; -38.19,6.013 -38.19,12.922 ; -38.19,18.612 -38.19,19.166 -31.337,19.166 ; -31.948,-16.462 -34.988,-16.462 -34.988,-7.662 -37.388,10.038 -31.388,10.038 -31.388,3.173 -30.175,3.173 -30.175,-6.044 30.294,-6.044 30.294,3.148 32.123,3.148 32.114,10.038 37.612,10.038 35.112,-7.662 35.112,-16.462 31.763,-16.462 ; -31.947,-19.239 -25.038,-19.239 ; -25.648,19.166 -18.739,19.166 ; -19.145,-19.239 -12.44,-19.239 ; -12.846,19.166 -6.14,19.166 ; -6.547,-19.239 0.159,-19.239 ; -0.248,19.166 6.661,19.166 ; 6.052,-19.239 12.96,-19.239 ; 12.554,19.166 19.26,19.166 ; 18.853,-19.239 25.559,-19.239 ; 25.152,19.166 32.061,19.166 ; 31.655,-19.239 38.314,-19.239 38.314,-18.777 ; 37.954,19.166 38.314,19.166 38.314,12.516 ; 38.314,-12.884 38.314,-6.179 ; 38.314,-0.286 38.314,6.623
  text "203" at 32.242,-16.732 h0.89
  text "73" at -8.271,-16.664 h0.89
  text "71" at -11.065,-16.791 h0.89
  text "1" at -31.639,-20.068 h0.89
  text "204" at 35.756,-6.276 h0.89
  text "74" at -7.763,-4.218 h0.89
  text "72" at -10.684,-4.218 h0.89
  text "2" at -29.861,-4.066 h0.89
Mechanical 1:
  lines w0.2: -0.5,0 0.5,0 ; 0,-0.5 0,0.5
Multi-Layer:
  pour cut-out: 33.462,-10.562 33.364,-10.562 33.17,-10.6 32.988,-10.676 32.825,-10.785 32.685,-10.924 32.576,-11.088 32.5,-11.27 32.462,-11.463 32.462,-11.562 32.462,-11.66 32.5,-11.853 32.576,-12.035 32.685,-12.199 32.825,-12.339 32.988,-12.448 33.17,-12.523 33.364,-12.562 33.462,-12.562 33.56,-12.562 33.754,-12.523 33.936,-12.448 34.099,-12.339 34.239,-12.199 34.348,-12.035 34.424,-11.853 34.462,-11.66 34.462,-11.562 34.462,-11.463 34.424,-11.27 34.348,-11.088 34.239,-10.924 34.099,-10.785 33.936,-10.676 33.754,-10.6 33.56,-10.562
  pour cut-out: -33.338,-10.262 -33.456,-10.262 -33.688,-10.308 -33.906,-10.398 -34.103,-10.53 -34.27,-10.697 -34.401,-10.893 -34.492,-11.112 -34.538,-11.344 -34.538,-11.462 -34.538,-11.58 -34.492,-11.812 -34.401,-12.03 -34.27,-12.227 -34.103,-12.394 -33.906,-12.525 -33.688,-12.616 -33.456,-12.662 -33.338,-12.662 -33.22,-12.662 -32.988,-12.616 -32.77,-12.525 -32.573,-12.394 -32.406,-12.227 -32.275,-12.03 -32.184,-11.812 -32.138,-11.58 -32.138,-11.462 -32.138,-11.344 -32.184,-11.112 -32.275,-10.893 -32.406,-10.697 -32.573,-10.53 -32.77,-10.398 -32.988,-10.308 -33.22,-10.262
3D body "JEDEC DDR3 204P SODIMM (1_5V).step": height 5.4, standoff 1.6, extent -33.75,-11.55 33.85,18.45
3D body "sodimm204.step": height 5.55, standoff -0.6, extent -35.75,-16.55 35.85,9.99

## TP4056_MOD [mm] "TP4056 MODULE"
pads (4):
  oval 3x2 hole 1.5: 1(-10.5,7.7) 2(-10.5,-7.7) 3(10.5,-7.7) 4(10.5,7.7)
Top Overlay:
  lines w0.2: -12.8,-9.8 12.7,-9.8 12.7,9.7 -12.8,9.7 -12.8,-9.8
  text "VIN+" at -13.3,6.1 h1
  text "VIN+" at -8.5,7.2 h1
  text "VIN-" at -8.5,-8.2 h1
  text "BAT-" at 5,-8.2 h1
  text "BAT+" at 5,7.2 h1
3D body "Lipo Charger - TP4056.stp": height 5.52, standoff 0, extent -13.871,-9.588 12.573,9.589